# Altium footprint library WQFN-HR_13_RPK.PcbLib: 1 footprints
Each footprint in its own frame and in the unit in brackets; x right, y up, seen from the top. Pads: shape width x height; smd on the part's side, far side on the other; paste and mask are expansions set on the pad; w line width, h text height; cw(c..) or ccw(c..) is an arc to the next point about the centre after c.
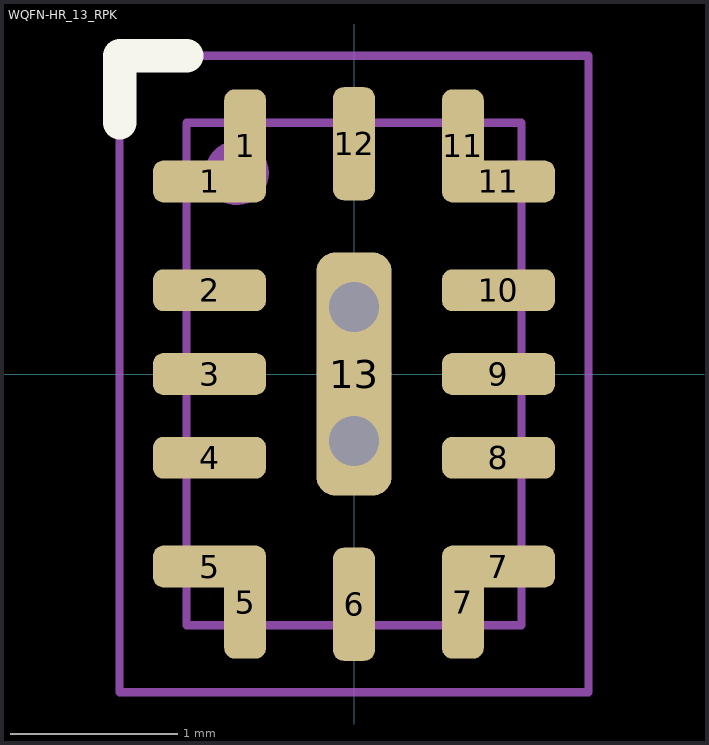
[diagram p0: the footprint, top view; thin cyan lines are the x and y axes]

## WQFN-HR_13_RPK [mm]
pads (17):
  rrect50% 0.675x0.25 smd mask+0.05: 1(-0.863,1.15) 2(-0.863,0.5) 3(-0.863,0) 4(-0.863,-0.5) 5(-0.863,-1.15) 7(0.863,-1.15) 8(0.863,-0.5) 9(0.863,0) 10(0.863,0.5) 11(0.863,1.15)
  rrect50% 0.25x0.675 smd mask+0.05: 1(-0.65,1.363) 5(-0.65,-1.363) 6(0,-1.375) 7(0.65,-1.363) 11(0.65,1.363) 12(0,1.375)
  rrect50% 0.45x1.45 smd mask+0.05: 13(0,0)
via 0,0.4 diameter 0.45 hole 0.3
via 0,-0.4 diameter 0.45 hole 0.3
Top Overlay:
  lines w0.2: -1.4,1.5 -1.4,1.9 -1,1.9
Top Assembly:
  circle w0.1: c-0.7,1.2 r0.141
  lines w0.05: -1,-1.5 -1,1.5 1,1.5 1,-1.5 -1,-1.5
Top Courtyard:
  lines w0.05: -0.2,0 0.2,0 ; 0,-0.2 0,0.2 ; -1.4,-1.9 -1.4,1.9 1.4,1.9 1.4,-1.9 -1.4,-1.9
3D body "RPK0013A.stp": height 0.65, standoff 0, extent -1,-1.5 1,1.5